# EAGLE library part TEN_25-1211 (library TEN_25-1211)
25 Watt DC/DC converter, industrial, 2:1 input, encapsulated, 2" x 1.6" metal package Source: Datasheet <https://tracopower.com/ten25-datasheet/>
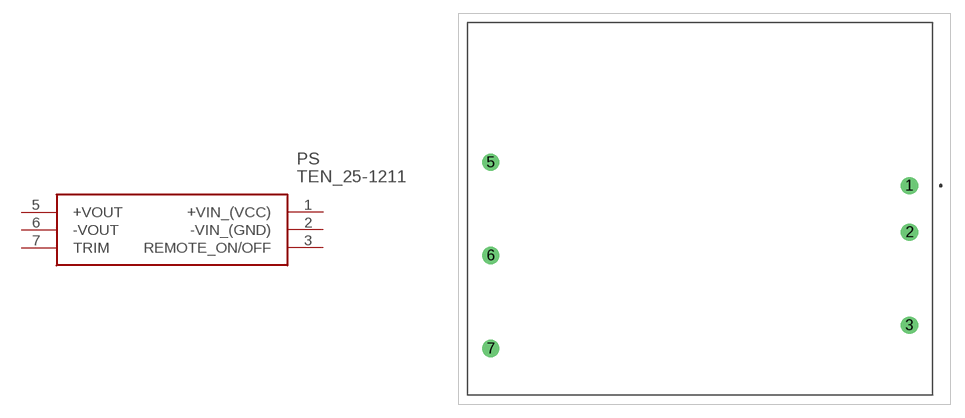
[diagram p0: symbol with the pads of TEN251211; footprint TEN251211]

Designator prefix PS

## TEN_25-1211 (Description: 25 Watt DC/DC converter, industrial, 2:1 input, encapsulated, 2" x 1.6" metal package; Height: 10mm; Manufacturer_Name: Traco Power; Manufacturer_Part_Number: TEN 25-1211; Mouser_Part_Number: 495-TEN25-1211; Mouser_Price-Stock: https://www.mouser.co.uk/ProductDetail/TRACO-Power/TEN-25-1211?qs=ckJk83FOD0XS9kGQInWe%252BQ%3D%3D)  [TEN251211]
1  +VIN_(VCC)
2  -VIN_(GND)
3  REMOTE_ON/OFF
5  +VOUT
6  -VOUT
7  TRIM

## Footprint TEN251211 (pad centres in mm)
TEN 25_S
drill 1.25 pad 1.875: 1 0,0; 2 0,-5.08; 3 0,-15.24; 5 -45.72,2.54; 6 -45.72,-7.62; 7 -45.72,-17.78